# Altium footprint library LFCSP.PcbLib: 1 footprints
Each footprint in its own frame and in the unit in brackets; x right, y up, seen from the top. Pads: shape width x height; smd on the part's side, far side on the other; paste and mask are expansions set on the pad; w line width, h text height; cw(c..) or ccw(c..) is an arc to the next point about the centre after c.
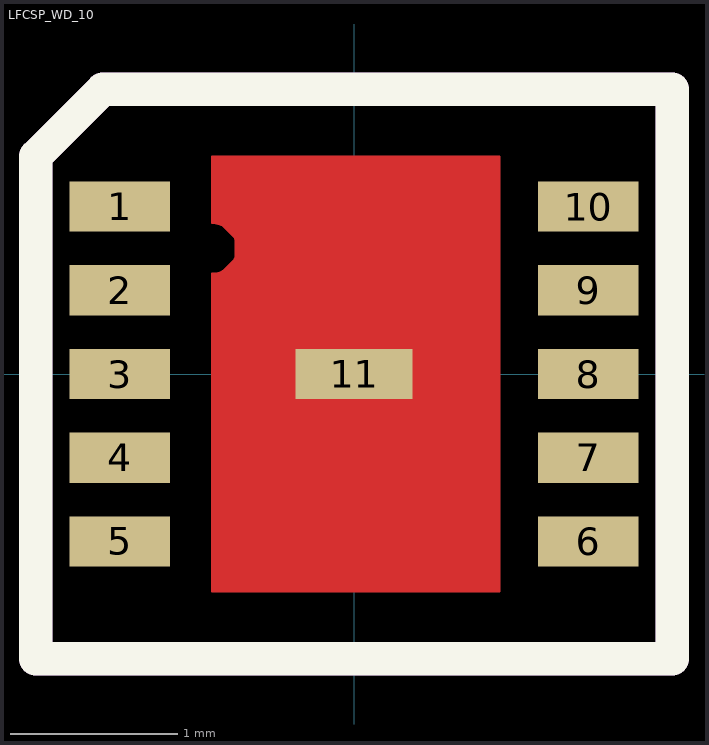
[diagram p0: the footprint, top view; thin cyan lines are the x and y axes]

## LFCSP_WD_10 [mm]
pads (11):
  rect 0.6x0.3 smd: 1(-1.4,1) 2(-1.4,0.5) 3(-1.4,0) 4(-1.4,-0.5) 5(-1.4,-1) 6(1.4,-1) 7(1.4,-0.5) 8(1.4,0) 9(1.4,0.5) 10(1.4,1)
  rect 0.7x0.3 smd: 11(0,0)
Top Layer:
  region: -0.85,-1.3 -0.85,0.6 -0.793,0.611 -0.711,0.693 -0.711,0.807 -0.793,0.889 -0.85,0.9 -0.85,1.3 0.87,1.3 0.87,-1.3
  lines w0.01: -0.85,-1.3 -0.85,0.6 ccw(c-0.85,0.75) -0.85,0.9 -0.85,1.3 0.87,1.3 0.87,-1.3 -0.85,-1.3
Top Overlay:
  lines w0.2: -1.9,-1.7 1.9,-1.7 1.9,1.7 -1.5,1.7 -1.9,1.3 -1.9,-1.7
TopAssy:
  lines w0.2: -1.9,-1.7 1.9,-1.7 1.9,1.7 -1.5,1.7 -1.9,1.3 -1.9,-1.7
  text ".Designator" at -1.3,-0.9 h1.52
3D body "LFCSP_WD-10.step": height 0.79, standoff -0.01, extent -1.55,-1.5 1.55,1.5